# EAGLE library part 557969-1 (library con-amp1)
AMP connector
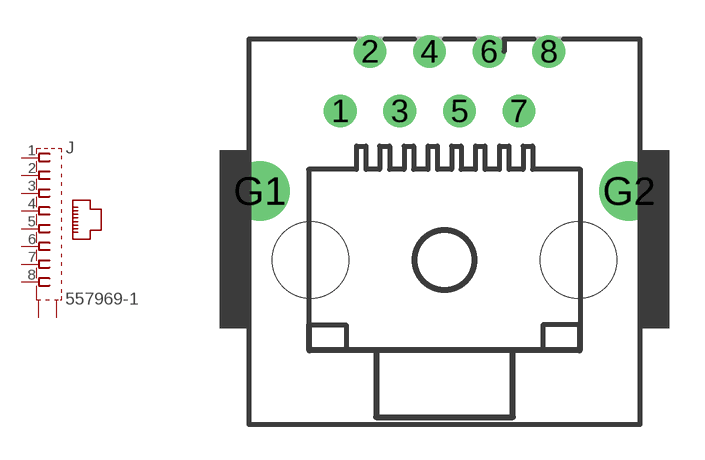
[diagram p44: symbol with the pads of 557969-1; footprint 557969-1]

Designator prefix J

## 557969-1  [557969-1]
1  1  pas
2  2  pas
3  3  pas
4  4  pas
5  5  pas
6  6  pas
7  7  pas
8  8  pas
G1  S2  pas
G2  S1  pas

## Footprint 557969-1 (pad centres in mm)
Modular Jack Shielded with Panel Stops
drill 0.889 round: 1 -4.445,6.35; 2 -3.175,8.89; 3 -1.905,6.35; 4 -0.635,8.89; 5 0.635,6.35; 6 1.905,8.89; 7 3.175,6.35; 8 4.445,8.89
drill 1.524 pad 2.54 round: G1 -7.874,2.946; G2 7.874,2.946
hole 3.251 at -5.715,0
hole 3.251 at 5.715,0